# Altium footprint library digital.PcbLib: 12 footprints
Each footprint in its own frame and in the unit in brackets; x right, y up, seen from the top. Pads: shape width x height; smd on the part's side, far side on the other; paste and mask are expansions set on the pad; w line width, h text height; cw(c..) or ccw(c..) is an arc to the next point about the centre after c.
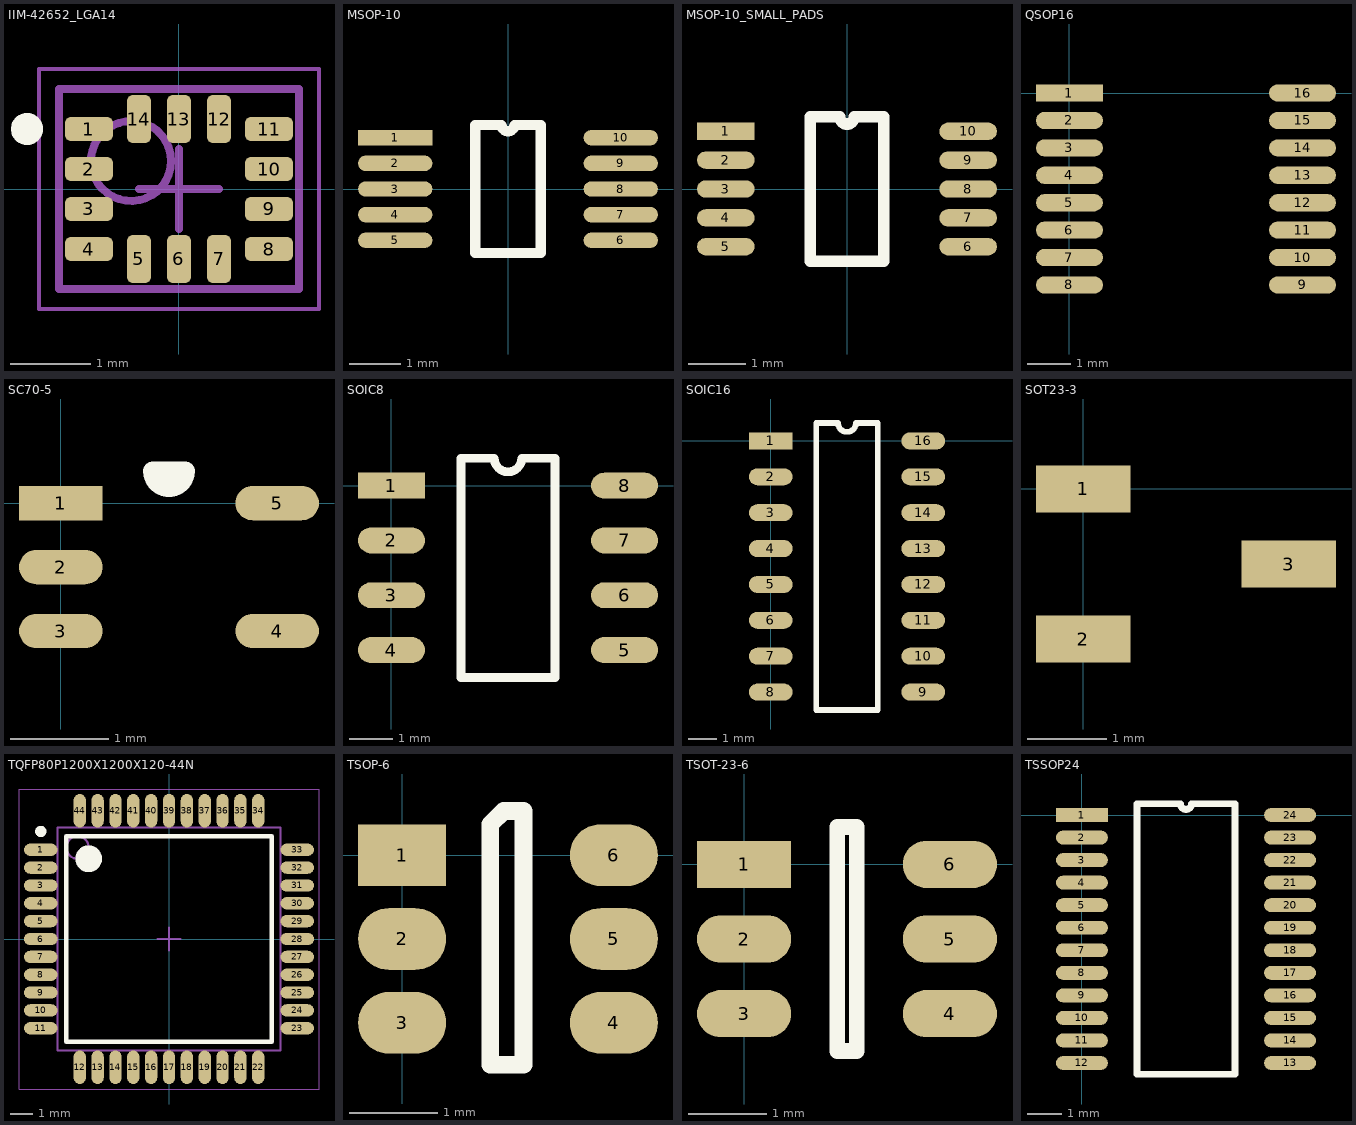
[diagram p0: the footprints below, top view; thin cyan lines are the x and y axes]

## IIM-42652_LGA14 [mm] "PQFN, 14-Leads, Body 3,00x2,50mm, Pitch 0,50mm, IPC Medium Density"
height 0.97
pads (14):
  rrect50% 0.6x0.3 smd: 1(-1.125,0.75) 2(-1.125,0.25) 3(-1.125,-0.25) 4(-1.125,-0.75) 8(1.125,-0.75) 9(1.125,-0.25) 10(1.125,0.25) 11(1.125,0.75)
  rrect50% 0.3x0.6 smd: 5(-0.5,-0.875) 6(0,-0.875) 7(0.5,-0.875) 12(0.5,0.875) 13(0,0.875) 14(-0.5,0.875)
Top Overlay:
  circle w0.2: c-1.9,0.75 r0.1
Mechanical 13:
  circle w0.1: c-0.6,0.35 r0.5
  lines w0.1: -1.5,-1.25 1.5,-1.25 1.5,1.25 -1.5,1.25 -1.5,-1.25
Mechanical 15:
  lines w0.05: -1.75,-1.5 1.75,-1.5 1.75,1.5 -1.75,1.5 -1.75,-1.5
  lines w0.1: -0.5,0 0.5,0 ; 0,-0.5 0,0.5
3D body "IIM-42652_LGA14.step": height 0.97, standoff 0, extent -1.5,-1.25 1.5,1.25

## MSOP-10 [mm]
pads (10):
  rect 1.45x0.3 smd: 1(-2.2,1)
  oval 1.45x0.3 smd: 2(-2.2,0.5) 3(-2.2,0) 4(-2.2,-0.5) 5(-2.2,-1) 6(2.2,-1) 7(2.2,-0.5) 8(2.2,0) 9(2.2,0.5) 10(2.2,1)
Top Overlay:
  lines w0.2: -0.64,-1.25 -0.64,1.25 -0.125,1.25 ccw(c0,1.25) 0.125,1.25 0.64,1.25 0.64,-1.25 -0.64,-1.25
3D body "User Library-msop-10.step": height 1.15, standoff 0, extent -2.475,-1.5 2.425,1.5

## MSOP-10_SMALL_PADS [mm]
pads (10):
  rect 1x0.3 smd: 1(-2.1,1)
  oval 1x0.3 smd: 2(-2.1,0.5) 3(-2.1,0) 4(-2.1,-0.5) 5(-2.1,-1) 6(2.1,-1) 7(2.1,-0.5) 8(2.1,0) 9(2.1,0.5) 10(2.1,1)
Top Overlay:
  lines w0.2: -0.64,-1.25 -0.64,1.25 -0.125,1.25 ccw(c0,1.25) 0.125,1.25 0.64,1.25 0.64,-1.25 -0.64,-1.25
3D body "User Library-msop-10.step": height 1.15, standoff 0, extent -2.475,-1.5 2.425,1.5

## QSOP16 [mm]
pads (16):
  rect 1.55x0.4 smd: 1(0,0)
  oval 1.55x0.4 smd: 2(0,-0.635) 3(0,-1.27) 4(0,-1.905) 5(0,-2.54) 6(0,-3.175) 7(0,-3.81) 8(0,-4.445) 9(5.4,-4.445) 10(5.4,-3.81) 11(5.4,-3.175) 12(5.4,-2.54) 13(5.4,-1.905) 14(5.4,-1.27) 15(5.4,-0.635) 16(5.4,0)
3D body "SOP63P602X173-16N.step": height 1.88, standoff 0, extent -0.313,-4.725 5.763,0.275

## SC70-5 [mm]
height 1
pads (5):
  rect 0.85x0.35 smd: 1(0,0)
  oval 0.85x0.35 smd: 2(0,-0.65) 3(0,-1.3) 4(2.2,-1.3) 5(2.2,0)
Top Overlay:
  lines w0.2: 0.94,0.325 1.262,0.325 cw(c1.1,0.325) 0.938,0.325 1.26,0.325
3D body "User Library-sot353.step": height 1, standoff 0, extent -0.075,-1.7 2.225,0.4

## SOIC8 [mm]
pads (8):
  rect 1.55x0.6 smd: 1(0,0)
  oval 1.55x0.6 smd: 2(0,-1.27) 3(0,-2.54) 4(0,-3.81) 5(5.4,-3.81) 6(5.4,-2.54) 7(5.4,-1.27) 8(5.4,0)
Top Overlay:
  lines w0.2: 1.61,-4.445 1.61,0.635 2.382,0.635 ccw(c2.7,0.635) 3.017,0.635 3.79,0.635 3.79,-4.445 1.61,-4.445
3D body "CircuitWorks-SO-8.step": height 1.46, standoff 0.01, extent -0.164,-4.352 5.614,0.55

## SOIC16 [mm]
pads (16):
  rect 1.55x0.6 smd: 1(0,0)
  oval 1.55x0.6 smd: 2(0,-1.27) 3(0,-2.54) 4(0,-3.81) 5(0,-5.08) 6(0,-6.35) 7(0,-7.62) 8(0,-8.89) 9(5.4,-8.89) 10(5.4,-7.62) 11(5.4,-6.35) 12(5.4,-5.08) 13(5.4,-3.81) 14(5.4,-2.54) 15(5.4,-1.27) 16(5.4,0)
Top Overlay:
  lines w0.2: 1.61,-9.525 1.61,0.635 2.382,0.635 ccw(c2.7,0.635) 3.017,0.635 3.79,0.635 3.79,-9.525 1.61,-9.525
3D body "CircuitWorks-SO-16.step": height 1.46, standoff 0.01, extent -0.25,-9.416 5.655,0.566

## SOT23-3 [mm]
pads (3):
  rect 1.2x0.6 smd: 1(0,0) 2(0,-1.9) 3(2.6,-0.95)
3D body "User Library-SOT23-3.step": height 1.3, standoff 0, extent -0.1,-2.4 2.7,0.5

## TQFP80P1200X1200X120-44N [mm] "TQFP, 44-Leads, Body 10,00x10,00mm, Pitch 0,80mm, IPC Medium Density"
height 1.2
pads (44):
  oval 1.5x0.55 smd: 1(-5.75,4) 2(-5.75,3.2) 3(-5.75,2.4) 4(-5.75,1.6) 5(-5.75,0.8) 6(-5.75,0) 7(-5.75,-0.8) 8(-5.75,-1.6) 9(-5.75,-2.4) 10(-5.75,-3.2) 11(-5.75,-4) 23(5.75,-4) 24(5.75,-3.2) 25(5.75,-2.4) 26(5.75,-1.6) 27(5.75,-0.8) 28(5.75,0) 29(5.75,0.8) 30(5.75,1.6) 31(5.75,2.4) 32(5.75,3.2) 33(5.75,4)
  oval 0.55x1.5 smd: 12(-4,-5.75) 13(-3.2,-5.75) 14(-2.4,-5.75) 15(-1.6,-5.75) 16(-0.8,-5.75) 17(0,-5.75) 18(0.8,-5.75) 19(1.6,-5.75) 20(2.4,-5.75) 21(3.2,-5.75) 22(4,-5.75) 34(4,5.75) 35(3.2,5.75) 36(2.4,5.75) 37(1.6,5.75) 38(0.8,5.75) 39(0,5.75) 40(-0.8,5.75) 41(-1.6,5.75) 42(-2.4,5.75) 43(-3.2,5.75) 44(-4,5.75)
Top Overlay:
  circle w0.6: c-3.6,3.6 r0.3
  circle w0.25: c-5.75,4.825 r0.125
  lines w0.2: -4.6,-4.6 4.6,-4.6 4.6,4.6 -4.6,4.6 -4.6,-4.6
Mechanical 13:
  circle w0.1: c-4.1,4.1 r0.5
  lines w0.1: -5,-5 5,-5 5,5 -5,5 -5,-5
Mechanical 15:
  lines w0.05: -6.725,-6.725 6.725,-6.725 6.725,6.725 -6.725,6.725 -6.725,-6.725
  lines w0.1: -0.5,0 0.5,0 ; 0,-0.5 0,0.5
3D body "User Library-TQFP-44-1.STEP": height 1.1, standoff 0, extent -6,-6 6,6

## TSOP-6 [mm]
height 1
pads (6):
  rect 1x0.7 smd: 1(0,0)
  oval 1x0.7 smd: 2(0,-0.95) 3(0,-1.9) 4(2.4,-1.9) 5(2.4,-0.95) 6(2.4,0)
Top Overlay:
  lines w0.2: 1,-2.375 1.375,-2.375 1.375,0.5 1.15,0.5 1,0.35 1,-2.375
3D body "User Library-TSOP-6.step": height 1, standoff 0, extent -0.125,-2.45 2.575,0.55

## TSOT-23-6 [mm]
height 1
pads (6):
  rect 1.2x0.6 smd: 1(0,0)
  oval 1.2x0.6 smd: 2(0,-0.95) 3(0,-1.9) 4(2.62,-1.9) 5(2.62,-0.95) 6(2.62,0)
Top Overlay:
  lines w0.2: 1.185,-2.375 1.435,-2.375 1.435,0.475 1.185,0.475 1.185,-2.375
3D body "User Library-SOT23-6-2.step": height 1.45, standoff 0, extent -0.075,-2.4 2.725,0.5

## TSSOP24 [mm]
height 1.1
pads (24):
  rect 1.5x0.4 smd: 1(0,0)
  oval 1.5x0.4 smd: 2(0,-0.65) 3(0,-1.3) 4(0,-1.95) 5(0,-2.6) 6(0,-3.25) 7(0,-3.9) 8(0,-4.55) 9(0,-5.2) 10(0,-5.85) 11(0,-6.5) 12(0,-7.15) 13(6,-7.15) 14(6,-6.5) 15(6,-5.85) 16(6,-5.2) 17(6,-4.55) 18(6,-3.9) 19(6,-3.25) 20(6,-2.6) 21(6,-1.95) 22(6,-1.3) 23(6,-0.65) 24(6,0)
Top Overlay:
  lines w0.2: 1.585,-7.475 4.415,-7.475 4.415,0.325 3.162,0.325 cw(c3,0.325) 2.838,0.325 1.585,0.325 1.585,-7.475
3D body "User Library-User Library-TSSOP-24.step": height 1.2, standoff 0, extent -0.275,-7.525 6.275,0.375